# Altium footprint library TO263-5L.PCBLIB: 2 footprints
Each footprint in its own frame and in the unit in brackets; x right, y up, seen from the top. Pads: shape width x height; smd on the part's side, far side on the other; paste and mask are expansions set on the pad; w line width, h text height; cw(c..) or ccw(c..) is an arc to the next point about the centre after c.
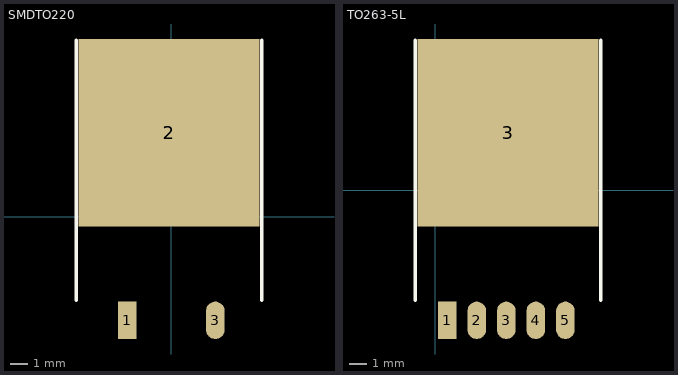
[diagram p0: the footprints below, top view; thin cyan lines are the x and y axes]

## SMDTO220 [mm]
pads (3):
  rect 1.07x2.15 smd: 1(-2.54,-5.969)
  rect 10.4x10.8 smd: 2(-0.127,4.826)
  oval 1.07x2.15 smd: 3(2.54,-5.969)
Top Overlay:
  lines w0.2: -5.461,-4.826 -5.461,10.16 ; 5.207,-4.826 5.207,10.16

## TO263-5L [mm]
pads (6):
  rect 1.07x2.15 smd: 1(0.693,-7.493)
  oval 1.07x2.15 smd: 2(2.393,-7.493) 3(4.093,-7.493) 4(5.793,-7.493) 5(7.493,-7.493)
  rect 10.4x10.8 smd: 3(4.191,3.302)
Top Overlay:
  lines w0.2: -1.143,-6.35 -1.143,8.636 ; 9.525,-6.35 9.525,8.636